# Altium footprint library WE-PPTI_1209_L12.7W9.14H7.62.PcbLib: 1 footprints
Each footprint in its own frame and in the unit in brackets; x right, y up, seen from the top. Pads: shape width x height; smd on the part's side, far side on the other; paste and mask are expansions set on the pad; w line width, h text height; cw(c..) or ccw(c..) is an arc to the next point about the centre after c.
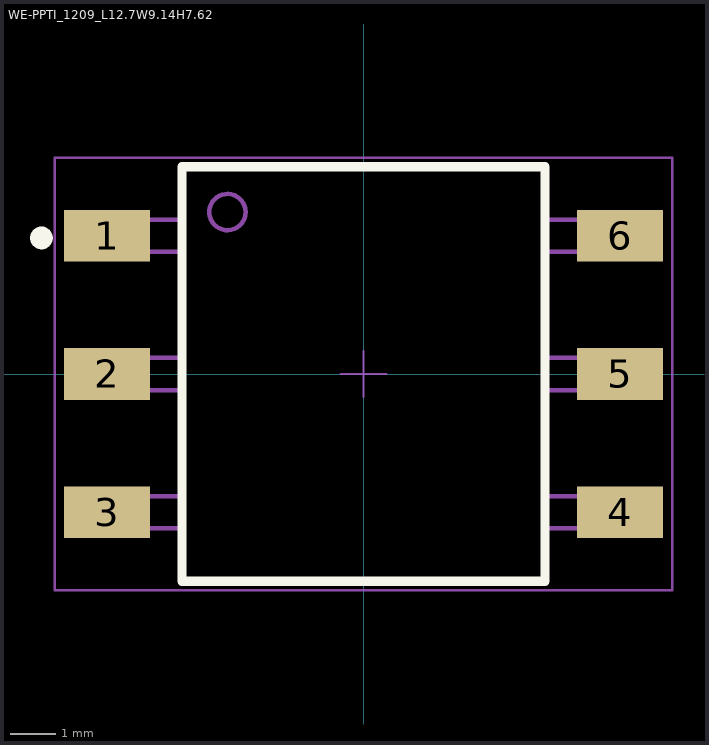
[diagram p0: the footprint, top view; thin cyan lines are the x and y axes]

## WE-PPTI_1209_L12.7W9.14H7.62 [mm] "Push-Pull Transformer, SMT, body 12.70 x 9.14 mm"
height 7.62
pads (6):
  rect 1.9x1.14 smd: 1(-5.655,3.05) 2(-5.655,0) 3(-5.655,-3.05) 4(5.655,-3.05) 5(5.655,0) 6(5.655,3.05)
Top Overlay:
  circle w0.25: c-7.1,3 r0.125
  lines w0.2: -4,-4.57 4,-4.57 4,4.57 -4,4.57 -4,-4.57
Board Outline:
  text ".Designator" at -7.498,-0.5 h1.5
Mechanical 11:
  circle w0.1: c-3,3.57 r0.4
  lines w0.1: -4,-3.405 -6.35,-3.405 -6.35,-2.695 -4,-2.695 ; -4,-0.355 -6.35,-0.355 -6.35,0.355 -4,0.355 ; -4,2.695 -6.35,2.695 -6.35,3.405 -4,3.405 ; 4,-3.405 6.35,-3.405 6.35,-2.695 4,-2.695 ; 4,-0.355 6.35,-0.355 6.35,0.355 4,0.355 ; 4,2.695 6.35,2.695 6.35,3.405 4,3.405 ; -4,-4.57 -4,4.57 4,4.57 4,-4.57 -4,-4.57
Top Courtyard:
  lines w0.05: -0.5,0 0.5,0 ; 0,-0.5 0,0.5 ; -6.805,-4.77 -6.805,4.77 6.805,4.77 6.805,-4.77 -6.805,-4.77
3D body "250-1123 (rev1).STEP": height 7.34, standoff 0.03, extent -6,-4.445 6,4.445